# Altium footprint library OASIS_COMPONENTS_FOOTPRINTS.PcbLib: 59 footprints (part 3 of 4)
Each footprint in its own frame and in the unit in brackets; x right, y up, seen from the top. Pads: shape width x height; smd on the part's side, far side on the other; paste and mask are expansions set on the pad; w line width, h text height; cw(c..) or ccw(c..) is an arc to the next point about the centre after c.
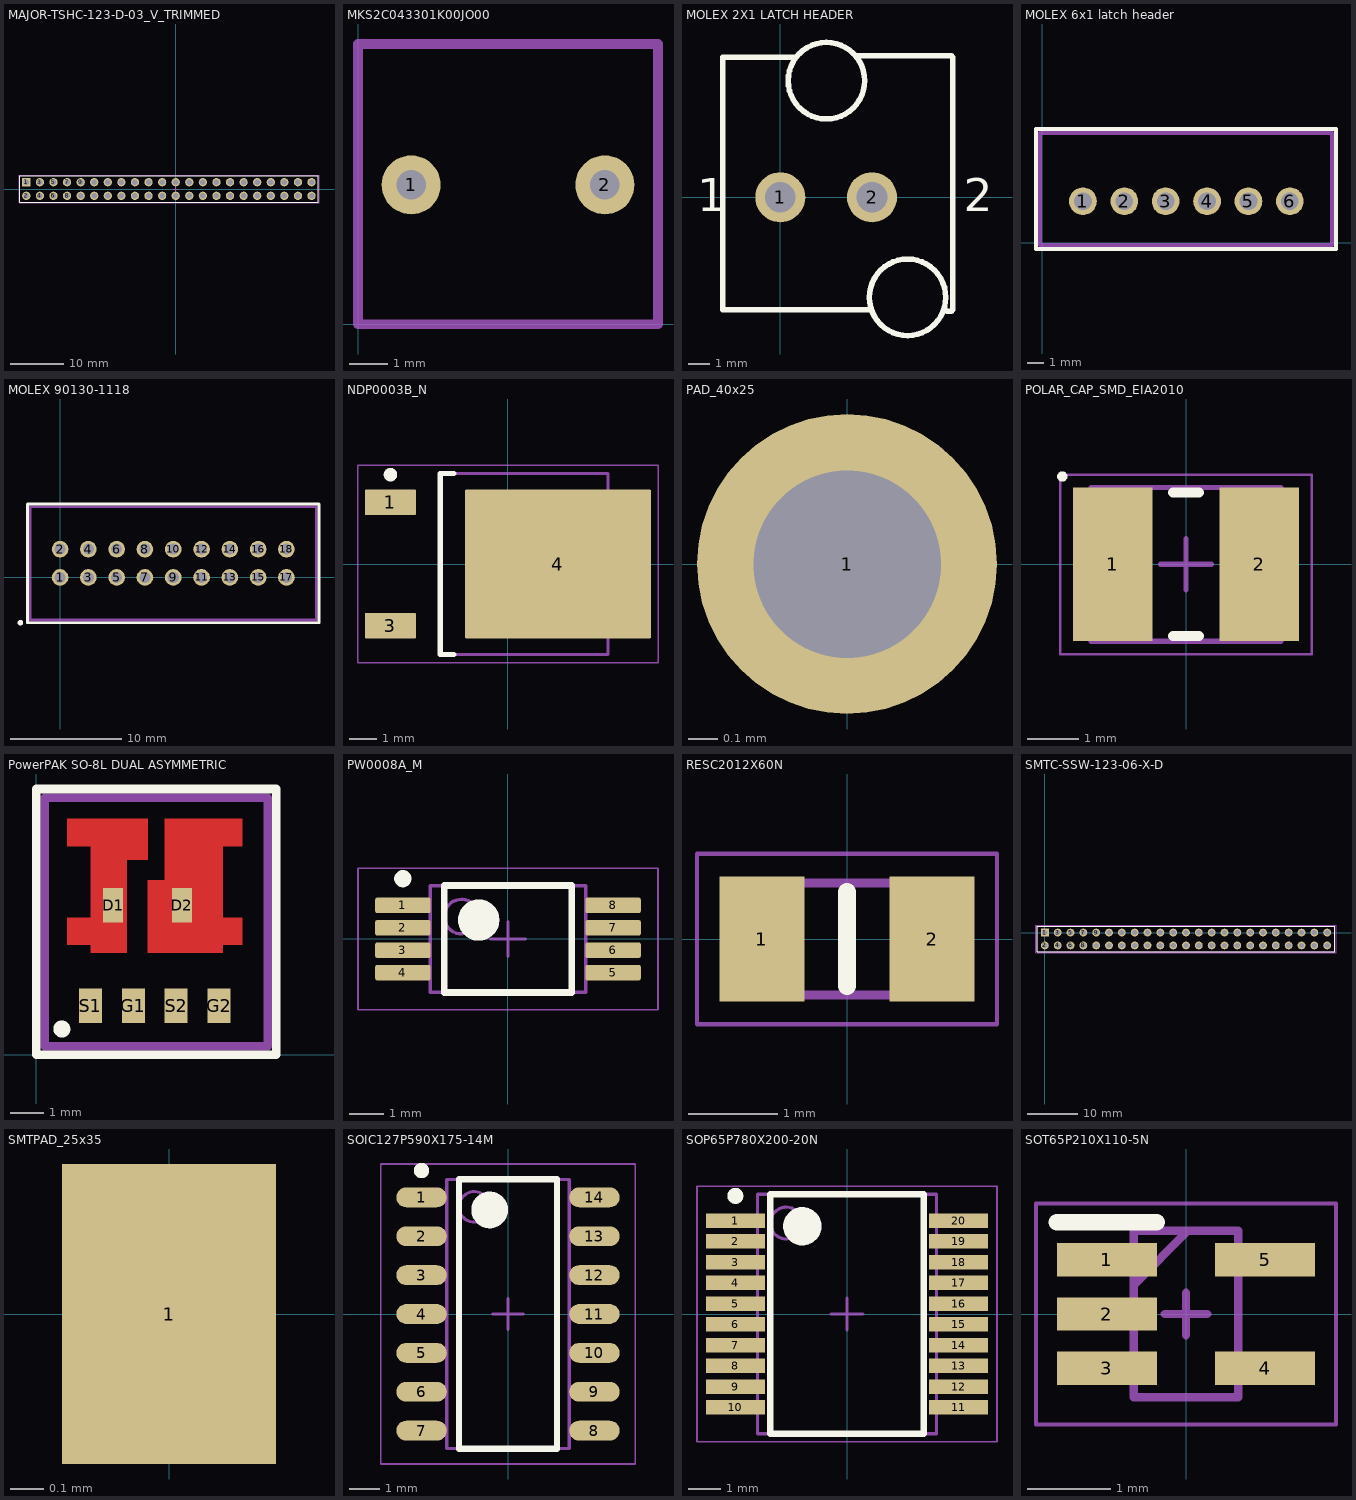
[diagram p2: the footprints below, top view; thin cyan lines are the x and y axes]

## MAJOR-TSHC-123-D-03_V_TRIMMED [mm] "CONN, 44-Leads, Body 58.42x5mm, Pitch 2.54mm"
height 6.22
pads (44):
  rect 1.55x1.55 hole 1.02 paste+0: 1(-27.94,1.27)
  round 1.55 hole 1.02 paste+0: 2(-27.94,-1.27) 3(-25.4,1.27) 4(-25.4,-1.27) 5(-22.86,1.27) 6(-22.86,-1.27) 7(-20.32,1.27) 8(-20.32,-1.27) 9(-17.78,1.27) 10(-17.78,-1.27) 11(-15.24,1.27) 12(-15.24,-1.27) 13(-12.7,1.27) 14(-12.7,-1.27) 15(-10.16,1.27) 16(-10.16,-1.27) 17(-7.62,1.27) 18(-7.62,-1.27) 19(-5.08,1.27) 20(-5.08,-1.27) 21(-2.54,1.27) 22(-2.54,-1.27) 23(0,1.27) 24(0,-1.27) 25(2.54,1.27) 26(2.54,-1.27) 27(5.08,1.27) 28(5.08,-1.27) 29(7.62,1.27) 30(7.62,-1.27) 31(10.16,1.27) 32(10.16,-1.27) 33(12.7,1.27) 34(12.7,-1.27) 35(15.24,1.27) 36(15.24,-1.27) 37(17.78,1.27) 38(17.78,-1.27) 39(20.32,1.27) 40(20.32,-1.27) 41(22.86,1.27) 42(22.86,-1.27) 43(25.4,1.27) 44(25.4,-1.27)
Top Overlay:
  lines w0.2: -29.21,-2.5 -29.21,2.5 26.67,2.5 26.67,-2.5 -29.21,-2.5
Component Center:
  lines w0.1: -0.5,0 0.5,0 ; 0,-0.5 0,0.5
Component Outline:
  lines w0.05: -29.31,-2.6 26.797,-2.6 26.797,2.6 -29.31,2.6 -29.31,-2.6
3D body: height 8.51, standoff -2.29, extent 25.08,-1.59 25.72,-0.95
3D body: height 8.51, standoff -2.29, extent 22.54,-1.59 23.18,-0.95
3D body: height 8.51, standoff -2.29, extent 20,-1.59 20.64,-0.95
3D body: height 8.51, standoff -2.29, extent 17.46,-1.59 18.1,-0.95
3D body: height 8.51, standoff -2.29, extent 14.92,-1.59 15.56,-0.95
3D body: height 8.51, standoff -2.29, extent 12.38,-1.59 13.02,-0.95
3D body: height 8.51, standoff -2.29, extent 9.84,-1.59 10.48,-0.95
3D body: height 8.51, standoff -2.29, extent 7.3,-1.59 7.94,-0.95
3D body: height 8.51, standoff -2.29, extent 4.76,-1.59 5.4,-0.95
3D body: height 8.51, standoff -2.29, extent 2.22,-1.59 2.86,-0.95
3D body: height 8.51, standoff -2.29, extent -0.32,-1.59 0.32,-0.95
3D body: height 8.51, standoff -2.29, extent -2.86,-1.59 -2.22,-0.95
3D body: height 8.51, standoff -2.29, extent -5.4,-1.59 -4.76,-0.95
3D body: height 8.51, standoff -2.29, extent -7.94,-1.59 -7.3,-0.95
3D body: height 8.51, standoff -2.29, extent -10.48,-1.59 -9.84,-0.95
3D body: height 8.51, standoff -2.29, extent -13.02,-1.59 -12.38,-0.95
3D body: height 8.51, standoff -2.29, extent -15.56,-1.59 -14.92,-0.95
3D body: height 8.51, standoff -2.29, extent -18.1,-1.59 -17.46,-0.95
3D body: height 8.51, standoff -2.29, extent -20.64,-1.59 -20,-0.95
3D body: height 8.51, standoff -2.29, extent -23.18,-1.59 -22.54,-0.95
3D body: height 8.51, standoff -2.29, extent -25.72,-1.59 -25.08,-0.95
3D body: height 8.51, standoff -2.29, extent 25.08,0.95 25.72,1.59
3D body: height 8.51, standoff -2.29, extent 22.54,0.95 23.18,1.59
3D body: height 8.51, standoff -2.29, extent 20,0.95 20.64,1.59
3D body: height 8.51, standoff -2.29, extent 17.46,0.95 18.1,1.59
3D body: height 8.51, standoff -2.29, extent 14.92,0.95 15.56,1.59
3D body: height 8.51, standoff -2.29, extent 12.38,0.95 13.02,1.59
3D body: height 8.51, standoff -2.29, extent 9.84,0.95 10.48,1.59
3D body: height 8.51, standoff -2.29, extent 7.3,0.95 7.94,1.59
3D body: height 8.51, standoff -2.29, extent 4.76,0.95 5.4,1.59
3D body: height 8.51, standoff -2.29, extent 2.22,0.95 2.86,1.59
3D body: height 8.51, standoff -2.29, extent -0.32,0.95 0.32,1.59
3D body: height 8.51, standoff -2.29, extent -2.86,0.95 -2.22,1.59
3D body: height 8.51, standoff -2.29, extent -5.4,0.95 -4.76,1.59
3D body: height 8.51, standoff -2.29, extent -7.94,0.95 -7.3,1.59
3D body: height 8.51, standoff -2.29, extent -10.48,0.95 -9.84,1.59
3D body: height 8.51, standoff -2.29, extent -13.02,0.95 -12.38,1.59
3D body: height 8.51, standoff -2.29, extent -15.56,0.95 -14.92,1.59
3D body: height 8.51, standoff -2.29, extent -18.1,0.95 -17.46,1.59
3D body: height 8.51, standoff -2.29, extent -20.64,0.95 -20,1.59
3D body: height 8.51, standoff -2.29, extent -23.18,0.95 -22.54,1.59
3D body: height 8.51, standoff -2.29, extent -25.72,0.95 -25.08,1.59
3D body: height 8.51, standoff -2.29, extent -28.26,0.95 -27.62,1.59
3D body: height 8.51, standoff -2.29, extent -28.26,-1.59 -27.62,-0.95
3D body: height 2.54, standoff 0, extent -29.21,-2.5 26.67,2.5

## MKS2C043301K00JO00 [mil]
pads (2):
  round 60 hole 30: 1(54.09,141.73) 2(250.94,141.73)
Top Overlay:
  pour cut-out: 190,-10
Component Outline:
  lines w10: 0,283.46 0,0 305,0 305,283.46 ; 0,285 305,285
3D body "48V Ouput Cap MKS2C043301K00JO00 v2.step": height 511.81, standoff -236.22, extent 10,-1.73 293.47,281.73

## MOLEX 2X1 LATCH HEADER [mil] "2x1 female molex connector for laser"
pads (2):
  round 90 hole 55 paste+0: 1(0,0) 2(165,0)
Top Overlay:
  circle w10: c229,-180 r68.82
  circle w10: c83,210 r68.88
  lines w10: 27.53,252.53 -103.97,252.53 -103.97,-202.53 162.53,-202.53 165,-205 ; 140,255 307.73,255 310.2,252.53 310.2,-202.53 307.73,-205 300,-205
  text "2" at 330,-25 h60
  text "1" at -150,-25 h60
3D body "1726470102.stp": height 503.94, standoff -137.8, extent -103.97,-202.53 310.2,252.53

## MOLEX 6x1 latch header [mm] "Single row, 6 position pin header with positive latch"
pads (6):
  round 1.7 hole 1.09 paste+0: 1(2.5,2.55) 2(5.04,2.55) 3(7.58,2.55) 4(10.12,2.55) 5(12.66,2.55) 6(15.2,2.55)
Top Overlay:
  lines w0.254: -0.381,-0.381 -0.381,6.985 18.034,6.985 18.034,-0.381 -0.381,-0.381
Courtyard:
  lines w0.254: -0.127,-0.127 -0.127,6.731 17.78,6.731 17.78,-0.127 -0.127,-0.127
3D body "1719710006.stp": height 11.8, standoff -3.31, extent 0,0 17.7,6.6

## MOLEX 90130-1118 [mm] "9x2 male shrouded pin header"
pads (18):
  round 1.5 hole 1 paste+0: 1(0,0) 2(0,2.54) 3(2.54,0) 4(2.54,2.54) 5(5.08,0) 6(5.08,2.54) 7(7.62,0) 8(7.62,2.54) 9(10.16,0) 10(10.16,2.54) 11(12.7,0) 12(12.7,2.54) 15(17.78,0) 16(17.78,2.54) 17(20.32,0) 18(20.32,2.54)
  round 1.5 hole 1: 13(15.24,0) 14(15.24,2.54)
Top Overlay:
  lines w0.254: -3.436,-4.024 ccw(c-3.556,-4.064) -3.429,-4.064 ; -2.921,-4.064 -2.921,6.604 23.241,6.604 23.241,-4.064 -2.921,-4.064
Courtyard:
  lines w0.254: -2.667,-3.81 -2.667,6.35 22.987,6.35 22.987,-3.81 -2.667,-3.81
3D body "901301118.stp": height 10.95, standoff -2.85, extent -2.44,-3.605 22.76,6.145

## NDP0003B_N [mm] "D-PAK, 4-Leads, Body 6.1x6.6mm, Pitch 2.29mm, Lead Span 9.7mm, IPC Medium Density"
height 2.38
pads (3):
  rrect11% 1.9x0.95 smd: 1(-4.35,2.28) 3(-4.35,-2.28)
  rrect2% 6.9x5.5 smd: 4(1.85,0)
Top Overlay:
  circle w0.25: c-4.35,3.305 r0.125
  lines w0.2: -2,-3.35 -2.5,-3.35 -2.5,3.35 -2,3.35
Courtyard:
  lines w0.05: -5.55,-3.65 -5.55,3.65 5.55,3.65 5.55,-3.65 -5.55,-3.65
Component Center:
  lines w0.1: -0.5,0 0.5,0 ; 0,-0.5 0,0.5
Component Outline:
  lines w0.1: -2.5,-3.35 3.7,-3.35 3.7,3.35 -2.5,3.35 -2.5,-3.35
3D body: height 1.14, standoff 0, extent 3.683,-2.54 5.08,2.54
3D body: height 2.38, standoff 0, extent -2.413,-3.349 3.699,3.349
3D body: height 0.25, standoff 0, extent -4.445,1.905 -2.413,2.54
3D body: height 0.25, standoff 0, extent -4.318,-2.604 -2.286,-1.969

## PAD_40x25 [mil] "Single through-hole solder pad"
height 35.43
pads (1):
  round 40 hole 25: 1(0,0)

## POLAR_CAP_SMD_EIA2010 [mm] "Polarized SMT capacitor, Imperial 2010 footprint"
height 1.1
pads (2):
  rect 1.55x3 smd: 1(-1.425,0) 2(1.425,0)
Top Overlay:
  circle w0.1: c-2.412,1.712 r0.05
  lines w0.2: -0.25,-1.4 0.25,-1.4 ; -0.25,1.4 0.25,1.4
Courtyard:
  lines w0.05: -2.45,-1.75 2.45,-1.75 2.45,1.75 -2.45,1.75 -2.45,-1.75
Component Center:
  lines w0.1: -0.5,0 0.5,0 ; 0,-0.5 0,0.5
Component Outline:
  lines w0.1: -1.85,-1.5 1.85,-1.5 1.85,1.5 -1.85,1.5 -1.85,-1.5
3D body "POLAR_CAP_SMD_EIA2010.step": height 1.1, standoff 0, extent -1.85,-1.5 1.85,1.5

## PowerPAK SO-8L DUAL ASYMMETRIC [mm]
height 1.07
pads (6):
  rect 0.59x1.02 smd paste-1 mask-1: D1(2.28,4.435) D2(4.32,4.435)
  rect 0.68x1.02 smd: G1(2.88,1.455) G2(5.42,1.455) S1(1.61,1.455) S2(4.15,1.455)
Top Layer:
  region: 4.58,6.35
  region: 4.58,5.715
  region: 3.81,6.985 6.115,6.985 6.115,6.175 5.53,6.175 5.53,4.065 6.115,4.065 6.115,3.255 5.53,3.255 5.53,3.025 3.3,3.025 3.3,5.165 3.81,5.165
  region: 0.915,6.985 3.3,6.985 3.3,5.775 2.685,5.775 2.685,3.025 1.625,3.025 1.625,3.255 0.915,3.255 0.915,4.065 1.625,4.065 1.625,6.175 0.915,6.175
  region: 7.874,-1.016
Top Overlay:
  lines w0.254: 0.876,0.819 ccw(c0.762,0.762) 0.889,0.762 ; 0,0 7.112,0 7.112,7.874 0,7.874 0,0
Courtyard:
  lines w0.254: 0.254,0.254 0.254,7.62 6.858,7.62 6.858,0.254 0.254,0.254
3D body: height 1.02, standoff 0, extent 1.27,1.397 5.715,6.604

## PW0008A_M [mm] "SOP, 8-Leads, Body 4.5x3.1mm, Pitch 0.65mm, IPC Low Density"
height 1.2
pads (8):
  rrect22% 1.6x0.45 smd: 1(-3.05,0.975) 2(-3.05,0.325) 3(-3.05,-0.325) 4(-3.05,-0.975) 5(3.05,-0.975) 6(3.05,-0.325) 7(3.05,0.325) 8(3.05,0.975)
Top Overlay:
  circle w0.25: c-3.05,1.75 r0.125
  circle w0.6: c-0.85,0.55 r0.3
  lines w0.2: -1.85,-1.55 -1.85,1.55 1.85,1.55 1.85,-1.55 -1.85,-1.55
Courtyard:
  lines w0.05: -4.35,-2.05 -4.35,2.05 4.35,2.05 4.35,-2.05 -4.35,-2.05
Component Center:
  lines w0.1: -0.5,0 0.5,0 ; 0,-0.5 0,0.5
Component Outline:
  circle w0.1: c-1.35,0.65 r0.5
  lines w0.1: -2.25,-1.55 2.25,-1.55 2.25,1.55 -2.25,1.55 -2.25,-1.55
3D body "TSSOP-8.stp": height 1.2, standoff 0, extent -3.228,-1.5 3.228,1.5

## RESC2012X60N [mm]
pads (2):
  rect 0.95x1.4 smd: 1(-0.95,0) 2(0.95,0)
Top Overlay:
  lines w0.2: 0,-0.525 0,0.525
Dimensions:
  lines w0.1: -1,-0.625 -1,0.625 1,0.625 1,-0.625 -1,-0.625
Component Outline:
  lines w0.05: -1.675,-0.95 -1.675,0.95 1.675,0.95 1.675,-0.95 -1.675,-0.95
3D body "RC0805JR-0710KL.stp": height 0.6, standoff 0, extent -1,-0.625 1,0.625

## SMTC-SSW-123-06-X-D [mm] "SQ Post Socket, 2x23 Pins, Vertical, 2.54mm Pitch, Female"
height 8.51
pads (46):
  rect 1.55x1.55 hole 1.04: 1(0,0)
  round 1.55 hole 1.04: 2(0,-2.54) 3(2.54,0) 4(2.54,-2.54) 5(5.08,0) 6(5.08,-2.54) 7(7.62,0) 8(7.62,-2.54) 9(10.16,0) 10(10.16,-2.54) 11(12.7,0) 12(12.7,-2.54) 13(15.24,0) 14(15.24,-2.54) 15(17.78,0) 16(17.78,-2.54) 17(20.32,0) 18(20.32,-2.54) 19(22.86,0) 20(22.86,-2.54) 21(25.4,0) 22(25.4,-2.54) 23(27.94,0) 24(27.94,-2.54) 25(30.48,0) 26(30.48,-2.54) 27(33.02,0) 28(33.02,-2.54) 29(35.56,0) 30(35.56,-2.54) 31(38.1,0) 32(38.1,-2.54) 33(40.64,0) 34(40.64,-2.54) 35(43.18,0) 36(43.18,-2.54) 37(45.72,0) 38(45.72,-2.54) 39(48.26,0) 40(48.26,-2.54) 41(50.8,0) 42(50.8,-2.54) 43(53.34,0) 44(53.34,-2.54) 45(55.88,0) 46(55.88,-2.54)
Top Overlay:
  lines w0.2: -1.525,-3.745 -1.525,1.205 57.405,1.205 57.405,-3.745 -1.525,-3.745
Courtyard:
  lines w0.05: -1.75,-3.97 -1.75,1.43 57.63,1.43 57.63,-3.97 -1.75,-3.97
Component Outline:
  lines w0.1: -1.525,-3.745 57.405,-3.745 57.405,1.205 -1.525,1.205 -1.525,-3.745
3D body "SSW-123-06-X-D.step": height 8.51, standoff -3.15, extent -1.524,-3.747 57.404,1.207

## SMTPAD_25x35 [mil]
height 35.43
pads (1):
  rect 25x35 smd: 1(0,0)

## SOIC127P590X175-14M [mm] "SOIC, 14-Leads, Body 8.65x3.90mm, Pitch 1.27mm, IPC Low Density"
height 1.75
pads (14):
  oval 1.65x0.65 smd: 1(-2.825,3.81) 2(-2.825,2.54) 3(-2.825,1.27) 4(-2.825,0) 5(-2.825,-1.27) 6(-2.825,-2.54) 7(-2.825,-3.81) 8(2.825,-3.81) 9(2.825,-2.54) 10(2.825,-1.27) 11(2.825,0) 12(2.825,1.27) 13(2.825,2.54) 14(2.825,3.81)
Top Overlay:
  circle w0.6: c-0.6,3.4 r0.3
  circle w0.25: c-2.825,4.685 r0.125
  lines w0.2: -1.6,-4.4 1.6,-4.4 1.6,4.4 -1.6,4.4 -1.6,-4.4
Courtyard:
  lines w0.05: -4.15,-4.9 4.15,-4.9 4.15,4.9 -4.15,4.9 -4.15,-4.9
Component Center:
  lines w0.1: -0.5,0 0.5,0 ; 0,-0.5 0,0.5
Component Outline:
  circle w0.1: c-1.1,3.5 r0.5
  lines w0.1: -2,-4.4 -2,4.4 2,4.4 2,-4.4 -2,-4.4
3D body "SOIC127P590X175-14M.step": height 1.75, standoff 0, extent -2.95,-4.4 2.95,4.4

## SOP65P780X200-20N [mm] "SOP, 20-Leads, Body 7.20x5.30mm, Pitch 0.65mm, IPC Medium Density"
height 2
pads (20):
  rect 1.85x0.45 smd: 1(-3.5,2.925) 2(-3.5,2.275) 3(-3.5,1.625) 4(-3.5,0.975) 5(-3.5,0.325) 6(-3.5,-0.325) 7(-3.5,-0.975) 8(-3.5,-1.625) 9(-3.5,-2.275) 10(-3.5,-2.925) 11(3.5,-2.925) 12(3.5,-2.275) 13(3.5,-1.625) 14(3.5,-0.975) 15(3.5,-0.325) 16(3.5,0.325) 17(3.5,0.975) 18(3.5,1.625) 19(3.5,2.275) 20(3.5,2.925)
Top Overlay:
  circle w0.6: c-1.4,2.75 r0.3
  circle w0.25: c-3.5,3.7 r0.125
  lines w0.2: -2.4,-3.75 2.4,-3.75 2.4,3.75 -2.4,3.75 -2.4,-3.75
Courtyard:
  lines w0.05: -4.7,-4 -4.7,4 4.7,4 4.7,-4 -4.7,-4
Component Center:
  lines w0.1: -0.5,0 0.5,0 ; 0,-0.5 0,0.5
Component Outline:
  circle w0.1: c-1.9,2.85 r0.5
  lines w0.1: -2.8,-3.75 2.8,-3.75 2.8,3.75 -2.8,3.75 -2.8,-3.75
3D body "SOP65P780X200-20N.step": height 2, standoff 0, extent -3.9,-3.75 3.9,3.75

## SOT65P210X110-5N [mm]
pads (5):
  rect 1.2x0.4 smd: 1(-0.95,0.65) 2(-0.95,0) 3(-0.95,-0.65) 4(0.95,-0.65) 5(0.95,0.65)
Top Overlay:
  lines w0.2: -1.55,1.1 -0.35,1.1
Courtyard:
  lines w0.05: -1.8,-1.325 1.8,-1.325 1.8,1.325 -1.8,1.325 -1.8,-1.325
Component Center:
  lines w0.1: -0.254,0 0.254,0 ; 0,0 0,-0.254 0,0.254
Component Outline:
  lines w0.1: -0.625,0.35 0.025,1 ; -0.625,-1 -0.625,1 0.625,1 0.625,-1 -0.625,-1
3D body "SN74AHC1G14DCK3.stp": height 1.1, standoff 0, extent -1.05,-1 1.05,1